# Altium schematic symbol library Connector_Audio.SchLib: 233 symbols (part 1 of 3)
Pins are listed as number, name and electrical type; pins without a type are passive.

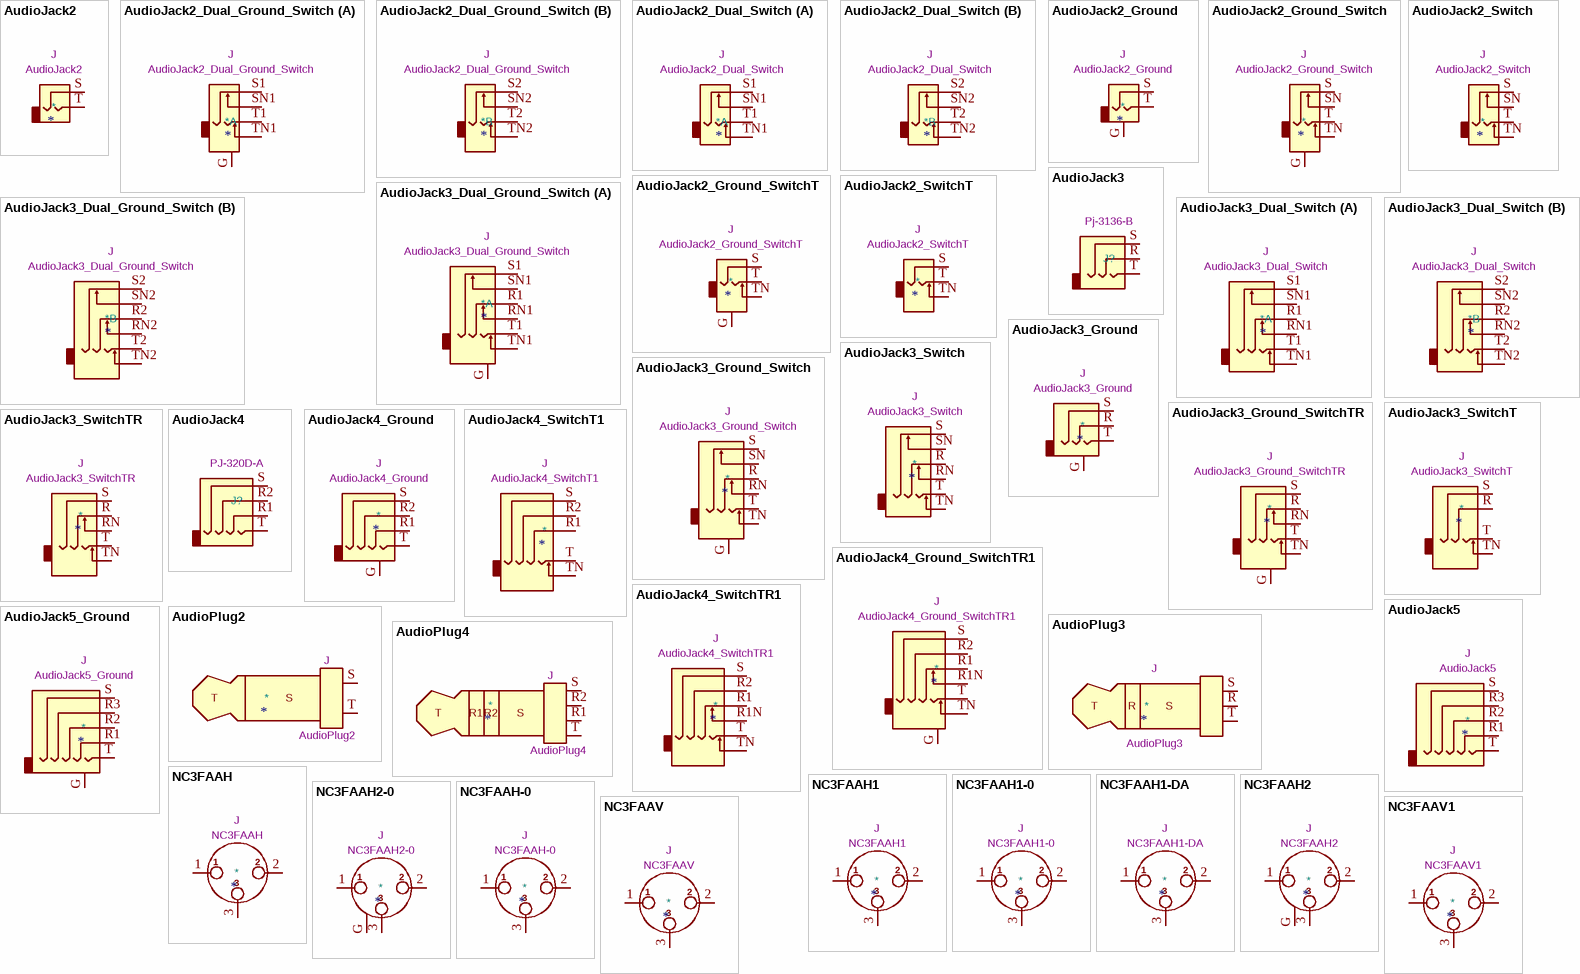
[diagram p0: symbols AudioJack2 to NC3FAAV1]

## AudioJack2
designator *  value AudioJack2  Reference: J
Audio Jack, 2 Poles (Mono / TS); ki_keywords: audio jack receptacle mono phone headphone TS connector; ki_fp_filters: Jack*; Datasheet: ~; Description_: Audio Jack, 2 Poles (Mono / TS)
pins: S, T

## AudioJack2_Dual_Ground_Switch
designator *  value AudioJack2_Dual_Ground_Switch  Reference: J
Audio Jack, Dual, 2 Poles (Mono / TS), Grounded Sleeve, Switched Pole (Normalling); ki_keywords: audio jack dual receptacle mono headphones phone TS connector; ki_fp_filters: Jack*; Datasheet: ~; Description_: Audio Jack, Dual, 2 Poles (Mono / TS), Grounded Sleeve, Switched Pole (Normalling)
part A pins: G, S1, SN1, T1, TN1
part B pins: S2, SN2, T2, TN2

## AudioJack2_Dual_Switch
designator *  value AudioJack2_Dual_Switch  Reference: J
Audio Jack, Dual, 2 Poles (Mono / TS), Switched Pole (Normalling); ki_keywords: audio jack dual receptacle mono headphones phone TS connector; ki_fp_filters: Jack*; Datasheet: ~; Description_: Audio Jack, Dual, 2 Poles (Mono / TS), Switched Pole (Normalling)
part A pins: S1, SN1, T1, TN1
part B pins: S2, SN2, T2, TN2

## AudioJack2_Ground
designator *  value AudioJack2_Ground  Reference: J
Audio Jack, 2 Poles (Mono / TS), Grounded Sleeve; ki_keywords: audio jack receptacle mono phone headphone TS connector; ki_fp_filters: Jack*; Datasheet: ~; Description_: Audio Jack, 2 Poles (Mono / TS), Grounded Sleeve
pins: G, S, T

## AudioJack2_Ground_Switch
designator *  value AudioJack2_Ground_Switch  Reference: J
Audio Jack, 2 Poles (Mono / TS), Grounded Sleeve, Switched Pole (Normalling); ki_keywords: audio jack receptacle mono headphones phone TS connector; ki_fp_filters: Jack*; Datasheet: ~; Description_: Audio Jack, 2 Poles (Mono / TS), Grounded Sleeve, Switched Pole (Normalling)
pins: G, S, SN, T, TN

## AudioJack2_Ground_SwitchT
designator *  value AudioJack2_Ground_SwitchT  Reference: J
Audio Jack, 2 Poles (Mono / TS), Grounded Sleeve, Switched T Pole (Normalling); ki_keywords: audio jack receptacle mono headphones phone TS connector; ki_fp_filters: Jack*; Datasheet: ~; Description_: Audio Jack, 2 Poles (Mono / TS), Grounded Sleeve, Switched T Pole (Normalling)
pins: G, S, T, TN

## AudioJack2_Switch
designator *  value AudioJack2_Switch  Reference: J
Audio Jack, 2 Poles (Mono / TS), Switched Pole (Normalling); ki_keywords: audio jack receptacle mono headphones phone TS connector; ki_fp_filters: Jack*; Datasheet: ~; Description_: Audio Jack, 2 Poles (Mono / TS), Switched Pole (Normalling)
pins: S, SN, T, TN

## AudioJack2_SwitchT
designator *  value AudioJack2_SwitchT  Reference: J
Audio Jack, 2 Poles (Mono / TS), Switched T Pole (Normalling); ki_keywords: audio jack receptacle mono headphones phone TS connector; ki_fp_filters: Jack*; Datasheet: ~; Description_: Audio Jack, 2 Poles (Mono / TS), Switched T Pole (Normalling)
pins: S, T, TN

## AudioJack3
designator J?  value Pj-3136-B  (hidden comment: *)
Audio Jack, 3 Poles (Stereo / TRS); ki_keywords: audio jack receptacle stereo headphones phones TRS connector; ki_fp_filters: Jack*; Reference: J; DNP: P; Datasheet: ~; Description_: Audio Jack, 3 Poles (Stereo / TRS)
footprint PJ-3136-B
pins: R, S, T

## AudioJack3_Dual_Ground_Switch
designator *  value AudioJack3_Dual_Ground_Switch  Reference: J
Audio Jack, Dual, 3 Poles (Stereo / TRS), Grounded Sleeve, Switched Poles (Normalling); ki_keywords: audio jack dual receptacle stereo headphones phones TRS connector; ki_fp_filters: Jack*; Datasheet: ~; Description_: Audio Jack, Dual, 3 Poles (Stereo / TRS), Grounded Sleeve, Switched Poles (Normalling)
part A pins: G, R1, RN1, S1, SN1, T1, TN1
part B pins: R2, RN2, S2, SN2, T2, TN2

## AudioJack3_Dual_Switch
designator *  value AudioJack3_Dual_Switch  Reference: J
Audio Jack, Dual, 3 Poles (Stereo / TRS), Switched Poles (Normalling); ki_keywords: audio jack dual receptacle stereo headphones phones TRS connector; ki_fp_filters: Jack*; Datasheet: ~; Description_: Audio Jack, Dual, 3 Poles (Stereo / TRS), Switched Poles (Normalling)
part A pins: R1, RN1, S1, SN1, T1, TN1
part B pins: R2, RN2, S2, SN2, T2, TN2

## AudioJack3_Ground
designator *  value AudioJack3_Ground  Reference: J
Audio Jack, 3 Poles (Stereo / TRS), Grounded Sleeve; ki_keywords: audio jack receptacle stereo headphones phones TRS connector; ki_fp_filters: Jack*; Datasheet: ~; Description_: Audio Jack, 3 Poles (Stereo / TRS), Grounded Sleeve
pins: G, R, S, T

## AudioJack3_Ground_Switch
designator *  value AudioJack3_Ground_Switch  Reference: J
Audio Jack, 3 Poles (Stereo / TRS), Grounded Sleeve, Switched Poles (Normalling); ki_keywords: audio jack receptacle stereo headphones phones TRS connector; ki_fp_filters: Jack*; Datasheet: ~; Description_: Audio Jack, 3 Poles (Stereo / TRS), Grounded Sleeve, Switched Poles (Normalling)
pins: G, R, RN, S, SN, T, TN

## AudioJack3_Ground_SwitchTR
designator *  value AudioJack3_Ground_SwitchTR  Reference: J
Audio Jack, 3 Poles (Stereo / TRS), Grounded Sleeve, Switched TR Poles (Normalling); ki_keywords: audio jack receptacle stereo headphones phones TRS connector; ki_fp_filters: Jack*; Datasheet: ~; Description_: Audio Jack, 3 Poles (Stereo / TRS), Grounded Sleeve, Switched TR Poles (Normalling)
pins: G, R, RN, S, T, TN

## AudioJack3_Switch
designator *  value AudioJack3_Switch  Reference: J
Audio Jack, 3 Poles (Stereo / TRS), Switched Poles (Normalling); ki_keywords: audio jack receptacle stereo headphones connector; ki_fp_filters: Jack*; Datasheet: ~; Description_: Audio Jack, 3 Poles (Stereo / TRS), Switched Poles (Normalling)
pins: R, RN, S, SN, T, TN

## AudioJack3_SwitchT
designator *  value AudioJack3_SwitchT  Reference: J
Audio Jack, 3 Poles (Stereo / TRS), Switched T Pole (Normalling); ki_keywords: audio jack receptacle stereo headphones phones TRS connector; ki_fp_filters: Jack*; Datasheet: ~; Description_: Audio Jack, 3 Poles (Stereo / TRS), Switched T Pole (Normalling)
pins: R, S, T, TN

## AudioJack3_SwitchTR
designator *  value AudioJack3_SwitchTR  Reference: J
Audio Jack, 3 Poles (Stereo / TRS), Switched TR Poles (Normalling); ki_keywords: audio jack receptacle stereo headphones phones TRS connector; ki_fp_filters: Jack*; Datasheet: ~; Description_: Audio Jack, 3 Poles (Stereo / TRS), Switched TR Poles (Normalling)
pins: R, RN, S, T, TN

## AudioJack4
designator J?  value PJ-320D-A  (hidden comment: *)
Audio Jack, 4 Poles (TRRS); ki_keywords: audio jack receptacle stereo headphones TRRS connector; ki_fp_filters: Jack*; Reference: J; DNP: P; ALTERNATE: CNX-QC2924; Datasheet: ~; Description_: Audio Jack, 4 Poles (TRRS)
footprint Jack_3.5mm_KoreanHropartsElec_PJ-320D-4A_Horizontal
pins: R1, R2, S, T

## AudioJack4_Ground
designator *  value AudioJack4_Ground  Reference: J
Audio Jack, 4 Poles (TRRS), Grounded Sleeve; ki_keywords: audio jack receptacle stereo headphones TRRS connector; ki_fp_filters: Jack*; Datasheet: ~; Description_: Audio Jack, 4 Poles (TRRS), Grounded Sleeve
pins: G, R1, R2, S, T

## AudioJack4_Ground_SwitchTR1
designator *  value AudioJack4_Ground_SwitchTR1  Reference: J
Audio Jack, 4 Poles (Stereo / TRRS), Grounded Sleeve, Switched TR1 Poles (Normalling); ki_keywords: audio jack receptacle stereo headphones phones TRS connector; ki_fp_filters: Jack*; Datasheet: ~; Description_: Audio Jack, 4 Poles (Stereo / TRRS), Grounded Sleeve, Switched TR1 Poles (Normalling)
pins: G, R1, R1N, R2, S, T, TN

## AudioJack4_SwitchT1
designator *  value AudioJack4_SwitchT1  Reference: J
Audio Jack, 4 Poles (Stereo / TRRS), Switched T1 Pole (Normalling); ki_keywords: audio jack receptacle stereo headphones phones connector; ki_fp_filters: Jack*; Datasheet: ~; Description_: Audio Jack, 4 Poles (Stereo / TRRS), Switched T1 Pole (Normalling)
pins: R1, R2, S, T, TN

## AudioJack4_SwitchTR1
designator *  value AudioJack4_SwitchTR1  Reference: J
Audio Jack, 4 Poles (Stereo / TRRS), Switched TR1 Poles (Normalling); ki_keywords: audio jack receptacle stereo headphones phones TRS connector; ki_fp_filters: Jack*; Datasheet: ~; Description_: Audio Jack, 4 Poles (Stereo / TRRS), Switched TR1 Poles (Normalling)
pins: R1, R1N, R2, S, T, TN

## AudioJack5
designator *  value AudioJack5  Reference: J
Audio Jack, 5 Poles (TRRRS); ki_keywords: audio jack receptacle stereo headphones TRRRS connector; ki_fp_filters: Jack*; Datasheet: ~; Description_: Audio Jack, 5 Poles (TRRRS)
pins: R1, R2, R3, S, T

## AudioJack5_Ground
designator *  value AudioJack5_Ground  Reference: J
Audio Jack, 5 Poles (TRRRS), Grounded Sleeve; ki_keywords: audio jack receptacle stereo headphones TRRRS connector; ki_fp_filters: Jack*; Datasheet: ~; Description_: Audio Jack, 5 Poles (TRRRS), Grounded Sleeve
pins: G, R1, R2, R3, S, T

## AudioPlug2
designator *  value AudioPlug2  Reference: J
Audio Jack, 2 Poles (Mono / TS); ki_keywords: audio jack plug stereo headphones TRRS connector 2.5mm 3.5mm 6.35mm; ki_fp_filters: Plug*; Datasheet: ~; Description_: Audio Jack, 2 Poles (Mono / TS)
pins: S, T

## AudioPlug3
designator *  value AudioPlug3  Reference: J
Audio Jack, 3 Poles (Stereo / TRS); ki_keywords: audio jack plug stereo headphones TRRS connector 2.5mm 3.5mm 6.35mm; ki_fp_filters: Plug*; Datasheet: ~; Description_: Audio Jack, 3 Poles (Stereo / TRS)
pins: R, S, T

## AudioPlug4
designator *  value AudioPlug4  Reference: J
Audio Jack, 4 Poles (Stereo / TRRS); ki_keywords: audio jack plug stereo headphones TRRS connector 2.5mm 3.5mm; ki_fp_filters: Plug*; Datasheet: ~; Description_: Audio Jack, 4 Poles (Stereo / TRRS)
pins: R1, R2, S, T

## NC3FAAH
designator *  value NC3FAAH  Reference: J
AA Series, 3 pole female XLR receptacle, grounding: without ground/shell contact, horizontal PCB mount; ki_keywords: xlr connector neutrik; ki_fp_filters: Jack*XLR*; Footprint: Connector_Audio:Jack_XLR_Neutrik_NC3FAAH_Horizontal; Datasheet: https://www.neutrik.com/en/product/nc3faah; Description_: AA Series, 3 pole female XLR receptacle, grounding: without ground/shell contact, horizontal PCB mount
pins: 1, 2, 3

## NC3FAAH1
designator *  value NC3FAAH1  Reference: J
AA Series, 3 pole female XLR receptacle, grounding: mating connector shell to pin1 and front panel, horizontal PCB mount; ki_keywords: xlr connector neutrik; ki_fp_filters: Jack*XLR*; Footprint: Connector_Audio:Jack_XLR_Neutrik_NC3FAAH1_Horizontal; Datasheet: https://www.neutrik.com/en/product/nc3faah1; Description_: AA Series, 3 pole female XLR receptacle, grounding: mating connector shell to pin1 and front panel, horizontal PCB mount
pins: 1, 2, 3

## NC3FAAH1-0
designator *  value NC3FAAH1-0  Reference: J
AA Series, 3 pole female XLR receptacle, grounding: mating connector shell to pin1 and front panel, horizontal PCB mount, retention spring instead of latch; ki_keywords: xlr connector neutrik; ki_fp_filters: Jack*XLR*; Footprint: Connector_Audio:Jack_XLR_Neutrik_NC3FAAH1-0_Horizontal; Datasheet: https://www.neutrik.com/en/product/nc3faah1-0; Description_: AA Series, 3 pole female XLR receptacle, grounding: mating connector shell to pin1 and front panel, horizontal PCB mount, retention spring instead of latch
pins: 1, 2, 3

## NC3FAAH1-DA
designator *  value NC3FAAH1-DA  Reference: J
AA Series, 3 pole female XLR receptacle, grounding: mating connector shell to pin1 and front panel, horizontal PCB mount, asymmetric push; ki_keywords: xlr connector neutrik; ki_fp_filters: Jack*XLR*; Footprint: Connector_Audio:Jack_XLR_Neutrik_NC3FAAH1-DA_Horizontal; Datasheet: https://www.neutrik.com/en/product/nc3faah1-da; Description_: AA Series, 3 pole female XLR receptacle, grounding: mating connector shell to pin1 and front panel, horizontal PCB mount, asymmetric push
pins: 1, 2, 3

## NC3FAAH2
designator *  value NC3FAAH2  Reference: J
AA Series, 3 pole female XLR receptacle, grounding: separate ground contact to mating connector shell and front panel, horizontal PCB mount; ki_keywords: xlr connector neutrik; ki_fp_filters: Jack*XLR*; Footprint: Connector_Audio:Jack_XLR_Neutrik_NC3FAAH2_Horizontal; Datasheet: https://www.neutrik.com/en/product/nc3faah2; Description_: AA Series, 3 pole female XLR receptacle, grounding: separate ground contact to mating connector shell and front panel, horizontal PCB mount
pins: 1, 2, 3, G

## NC3FAAH2-0
designator *  value NC3FAAH2-0  Reference: J
AA Series, 3 pole female XLR receptacle, grounding: separate ground contact to mating connector shell and front panel, horizontal PCB mount, retention spring instead of latch; ki_keywords: xlr connector neutrik; ki_fp_filters: Jack*XLR*; Footprint: Connector_Audio:Jack_XLR_Neutrik_NC3FAAH2-0_Horizontal; Datasheet: https://www.neutrik.com/en/product/nc3faah2-0; Description_: AA Series, 3 pole female XLR receptacle, grounding: separate ground contact to mating connector shell and front panel, horizontal PCB mount, retention spring instead of latch
pins: 1, 2, 3, G

## NC3FAAH-0
designator *  value NC3FAAH-0  Reference: J
AA Series, 3 pole female XLR receptacle, grounding: without ground/shell contact, horizontal PCB mount, retention spring instead of latch; ki_keywords: xlr connector neutrik; ki_fp_filters: Jack*XLR*; Footprint: Connector_Audio:Jack_XLR_Neutrik_NC3FAAH-0_Horizontal; Datasheet: https://www.neutrik.com/en/product/nc3faah-0; Description_: AA Series, 3 pole female XLR receptacle, grounding: without ground/shell contact, horizontal PCB mount, retention spring instead of latch
pins: 1, 2, 3

## NC3FAAV
designator *  value NC3FAAV  Reference: J
AA Series, 3 pole female receptacle, grounding: without ground/shell contact, vertical PCB mount; ki_keywords: xlr connector neutrik; ki_fp_filters: Jack*XLR*; Footprint: Connector_Audio:Jack_XLR_Neutrik_NC3FAAV_Vertical; Datasheet: https://www.neutrik.com/en/product/nc3faav; Description_: AA Series, 3 pole female receptacle, grounding: without ground/shell contact, vertical PCB mount
pins: 1, 2, 3

## NC3FAAV1
designator *  value NC3FAAV1  Reference: J
AA Series, 3 pole female receptacle, grounding: mating connector shell to pin1 and front panel, vertical PCB mount; ki_keywords: xlr connector neutrik; ki_fp_filters: Jack*XLR*; Footprint: Connector_Audio:Jack_XLR_Neutrik_NC3FAAV1_Vertical; Datasheet: https://www.neutrik.com/en/product/nc3faav1; Description_: AA Series, 3 pole female receptacle, grounding: mating connector shell to pin1 and front panel, vertical PCB mount
pins: 1, 2, 3

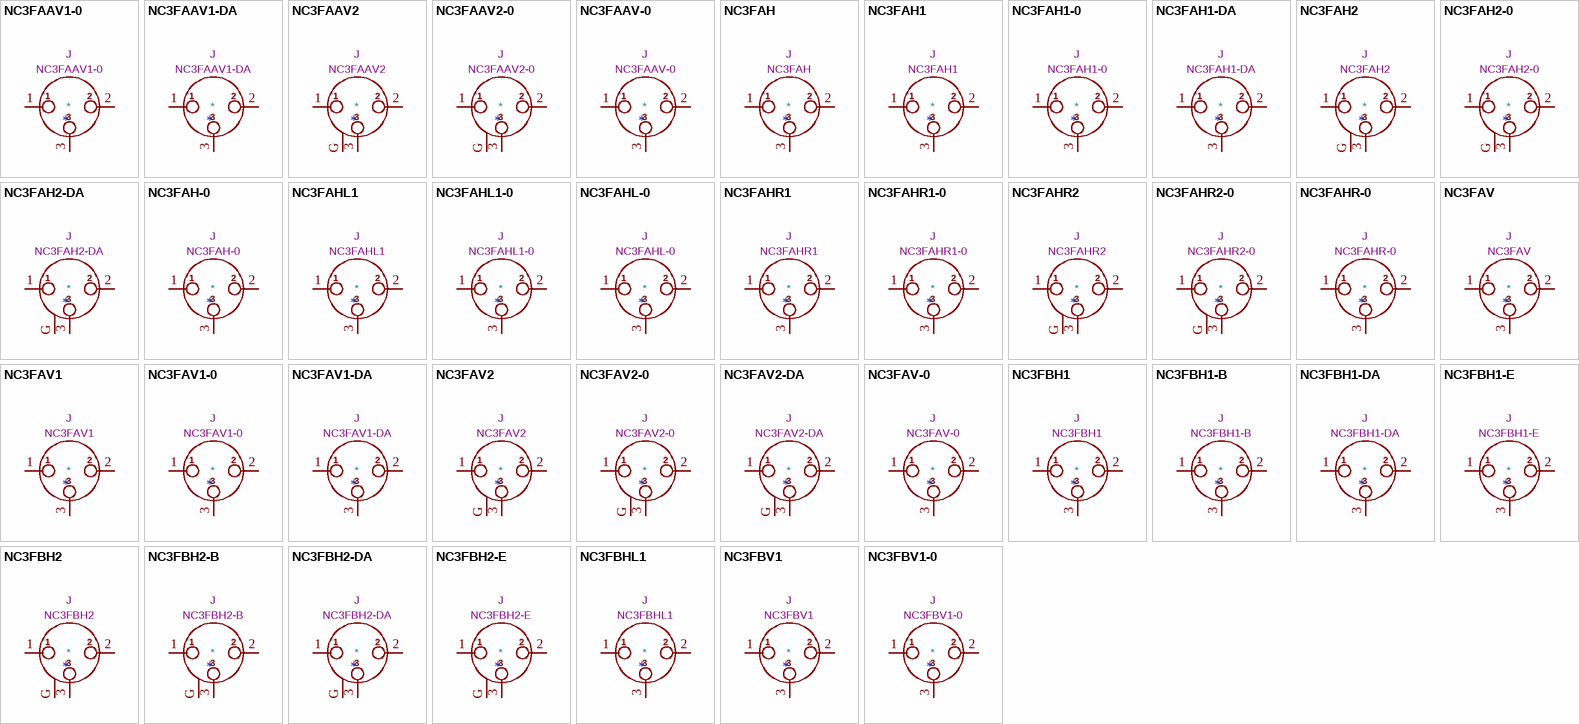
[diagram p1: symbols NC3FAAV1-0 to NC3FBV1-0]

## NC3FAAV1-0
designator *  value NC3FAAV1-0  Reference: J
AA Series, 3 pole female receptacle, grounding: mating connector shell to pin1 and front panel, vertical PCB mount, retention spring instead of latch; ki_keywords: xlr connector neutrik; ki_fp_filters: Jack*XLR*; Footprint: Connector_Audio:Jack_XLR_Neutrik_NC3FAAV1-0_Vertical; Datasheet: https://www.neutrik.com/en/product/nc3faav1-0; Description_: AA Series, 3 pole female receptacle, grounding: mating connector shell to pin1 and front panel, vertical PCB mount, retention spring instead of latch
pins: 1, 2, 3

## NC3FAAV1-DA
designator *  value NC3FAAV1-DA  Reference: J
AA Series, 3 pole female receptacle, grounding: mating connector shell to pin1 and front panel, vertical PCB mount, asymmetric push; ki_keywords: xlr connector neutrik; ki_fp_filters: Jack*XLR*; Footprint: Connector_Audio:Jack_XLR_Neutrik_NC3FAAV1-DA_Vertical; Datasheet: https://www.neutrik.com/en/product/nc3faav1-da; Description_: AA Series, 3 pole female receptacle, grounding: mating connector shell to pin1 and front panel, vertical PCB mount, asymmetric push
pins: 1, 2, 3

## NC3FAAV2
designator *  value NC3FAAV2  Reference: J
AA Series, 3 pole female receptacle, grounding: separate ground contact to mating connector shell and front panel, vertical PCB mount; ki_keywords: xlr connector neutrik; ki_fp_filters: Jack*XLR*; Footprint: Connector_Audio:Jack_XLR_Neutrik_NC3FAAV2_Vertical; Datasheet: https://www.neutrik.com/en/product/nc3faav2; Description_: AA Series, 3 pole female receptacle, grounding: separate ground contact to mating connector shell and front panel, vertical PCB mount
pins: 1, 2, 3, G

## NC3FAAV2-0
designator *  value NC3FAAV2-0  Reference: J
AA Series, 3 pole female receptacle, grounding: separate ground contact to mating connector shell and front panel, vertical PCB mount, retention spring instead of latch; ki_keywords: xlr connector neutrik; ki_fp_filters: Jack*XLR*; Footprint: Connector_Audio:Jack_XLR_Neutrik_NC3FAAV2-0_Vertical; Datasheet: https://www.neutrik.com/en/product/nc3faav2-0; Description_: AA Series, 3 pole female receptacle, grounding: separate ground contact to mating connector shell and front panel, vertical PCB mount, retention spring instead of latch
pins: 1, 2, 3, G

## NC3FAAV-0
designator *  value NC3FAAV-0  Reference: J
AA Series, 3 pole female receptacle, grounding: without ground/shell contact, vertical PCB mount, retention spring instead of latch; ki_keywords: xlr connector neutrik; ki_fp_filters: Jack*XLR*; Footprint: Connector_Audio:Jack_XLR_Neutrik_NC3FAAV-0_Vertical; Datasheet: https://www.neutrik.com/en/product/nc3faav-0; Description_: AA Series, 3 pole female receptacle, grounding: without ground/shell contact, vertical PCB mount, retention spring instead of latch
pins: 1, 2, 3

## NC3FAH
designator *  value NC3FAH  Reference: J
A Series, 3 pole female XLR receptacle, grounding: without ground/shell contact, horizontal PCB mount; ki_keywords: xlr connector neutrik; ki_fp_filters: Jack*XLR*; Footprint: Connector_Audio:Jack_XLR_Neutrik_NC3FAH_Horizontal; Datasheet: https://www.neutrik.com/en/product/nc3fah; Description_: A Series, 3 pole female XLR receptacle, grounding: without ground/shell contact, horizontal PCB mount
pins: 1, 2, 3

## NC3FAH1
designator *  value NC3FAH1  Reference: J
A Series, 3 pole female XLR receptacle, grounding: mating connector shell to pin1 and front panel, horizontal PCB mount; ki_keywords: xlr connector neutrik; ki_fp_filters: Jack*XLR*; Footprint: Connector_Audio:Jack_XLR_Neutrik_NC3FAH1_Horizontal; Datasheet: https://www.neutrik.com/en/product/nc3fah1; Description_: A Series, 3 pole female XLR receptacle, grounding: mating connector shell to pin1 and front panel, horizontal PCB mount
pins: 1, 2, 3

## NC3FAH1-0
designator *  value NC3FAH1-0  Reference: J
A Series, 3 pole female XLR receptacle, grounding: mating connector shell to pin1 and front panel, horizontal PCB mount, retention spring instead of latch; ki_keywords: xlr connector neutrik; ki_fp_filters: Jack*XLR*; Footprint: Connector_Audio:Jack_XLR_Neutrik_NC3FAH1-0_Horizontal; Datasheet: https://www.neutrik.com/en/product/nc3fah1-0; Description_: A Series, 3 pole female XLR receptacle, grounding: mating connector shell to pin1 and front panel, horizontal PCB mount, retention spring instead of latch
pins: 1, 2, 3

## NC3FAH1-DA
designator *  value NC3FAH1-DA  Reference: J
A Series, 3 pole female XLR receptacle, grounding: mating connector shell to pin1 and front panel, horizontal PCB mount, asymmetric push; ki_keywords: xlr connector neutrik; ki_fp_filters: Jack*XLR*; Footprint: Connector_Audio:Jack_XLR_Neutrik_NC3FAH1-DA_Horizontal; Datasheet: https://www.neutrik.com/en/product/nc3fah1-da; Description_: A Series, 3 pole female XLR receptacle, grounding: mating connector shell to pin1 and front panel, horizontal PCB mount, asymmetric push
pins: 1, 2, 3

## NC3FAH2
designator *  value NC3FAH2  Reference: J
A Series, 3 pole female XLR receptacle, grounding: separate ground contact to mating connector shell and front panel, horizontal PCB mount; ki_keywords: xlr connector neutrik; ki_fp_filters: Jack*XLR*; Footprint: Connector_Audio:Jack_XLR_Neutrik_NC3FAH2_Horizontal; Datasheet: https://www.neutrik.com/en/product/nc3fah2; Description_: A Series, 3 pole female XLR receptacle, grounding: separate ground contact to mating connector shell and front panel, horizontal PCB mount
pins: 1, 2, 3, G

## NC3FAH2-0
designator *  value NC3FAH2-0  Reference: J
A Series, 3 pole female XLR receptacle, grounding: separate ground contact to mating connector shell and front panel, horizontal PCB mount, retention spring instead of latch; ki_keywords: xlr connector neutrik; ki_fp_filters: Jack*XLR*; Footprint: Connector_Audio:Jack_XLR_Neutrik_NC3FAH2-0_Horizontal; Datasheet: https://www.neutrik.com/en/product/nc3fah2-0; Description_: A Series, 3 pole female XLR receptacle, grounding: separate ground contact to mating connector shell and front panel, horizontal PCB mount, retention spring instead of latch
pins: 1, 2, 3, G

## NC3FAH2-DA
designator *  value NC3FAH2-DA  Reference: J
A Series, 3 pole female XLR receptacle, grounding: separate ground contact to mating connector shell and front panel, horizontal PCB mount, asymmetric push; ki_keywords: xlr connector neutrik; ki_fp_filters: Jack*XLR*; Footprint: Connector_Audio:Jack_XLR_Neutrik_NC3FAH2-DA_Horizontal; Datasheet: https://www.neutrik.com/en/product/nc3fah2-da; Description_: A Series, 3 pole female XLR receptacle, grounding: separate ground contact to mating connector shell and front panel, horizontal PCB mount, asymmetric push
pins: 1, 2, 3, G

## NC3FAH-0
designator *  value NC3FAH-0  Reference: J
A Series, 3 pole female XLR receptacle, grounding: without ground/shell contact, horizontal PCB mount, retention spring instead of latch; ki_keywords: xlr connector neutrik; ki_fp_filters: Jack*XLR*; Footprint: Connector_Audio:Jack_XLR_Neutrik_NC3FAH-0_Horizontal; Datasheet: https://www.neutrik.com/en/product/nc3fah-0; Description_: A Series, 3 pole female XLR receptacle, grounding: without ground/shell contact, horizontal PCB mount, retention spring instead of latch
pins: 1, 2, 3

## NC3FAHL1
designator *  value NC3FAHL1  Reference: J
A Series, 3 pole female XLR receptacle, grounding: mating connector shell to pin1 and front panel, lateral left PCB mount; ki_keywords: xlr connector neutrik; ki_fp_filters: Jack*XLR*; Footprint: Connector_Audio:Jack_XLR_Neutrik_NC3FAHL1_Horizontal; Datasheet: https://www.neutrik.com/en/product/nc3fahl1; Description_: A Series, 3 pole female XLR receptacle, grounding: mating connector shell to pin1 and front panel, lateral left PCB mount
pins: 1, 2, 3

## NC3FAHL1-0
designator *  value NC3FAHL1-0  Reference: J
A Series, 3 pole female XLR receptacle, grounding: mating connector shell to pin1 and front panel, lateral left PCB mount, retention spring instead of latch; ki_keywords: xlr connector neutrik; ki_fp_filters: Jack*XLR*; Footprint: Connector_Audio:Jack_XLR_Neutrik_NC3FAHL1-0_Horizontal; Datasheet: https://www.neutrik.com/en/product/nc3fahl1-0; Description_: A Series, 3 pole female XLR receptacle, grounding: mating connector shell to pin1 and front panel, lateral left PCB mount, retention spring instead of latch
pins: 1, 2, 3

## NC3FAHL-0
designator *  value NC3FAHL-0  Reference: J
A Series, 3 pole female XLR receptacle, grounding: without ground/shell contact, lateral left PCB mount, retention spring instead of latch; ki_keywords: xlr connector neutrik; ki_fp_filters: Jack*XLR*; Footprint: Connector_Audio:Jack_XLR_Neutrik_NC3FAHL-0_Horizontal; Datasheet: https://www.neutrik.com/en/product/nc3fahl-0; Description_: A Series, 3 pole female XLR receptacle, grounding: without ground/shell contact, lateral left PCB mount, retention spring instead of latch
pins: 1, 2, 3

## NC3FAHR1
designator *  value NC3FAHR1  Reference: J
A Series, 3 pole female XLR receptacle, grounding: mating connector shell to pin1 and front panel, lateral right PCB mount; ki_keywords: xlr connector neutrik; ki_fp_filters: Jack*XLR*; Footprint: Connector_Audio:Jack_XLR_Neutrik_NC3FAHR1_Horizontal; Datasheet: https://www.neutrik.com/en/product/nc3fahr1; Description_: A Series, 3 pole female XLR receptacle, grounding: mating connector shell to pin1 and front panel, lateral right PCB mount
pins: 1, 2, 3

## NC3FAHR1-0
designator *  value NC3FAHR1-0  Reference: J
A Series, 3 pole female XLR receptacle, grounding: mating connector shell to pin1 and front panel, lateral right PCB mount, retention spring instead of latch; ki_keywords: xlr connector neutrik; ki_fp_filters: Jack*XLR*; Footprint: Connector_Audio:Jack_XLR_Neutrik_NC3FAHR1-0_Horizontal; Datasheet: https://www.neutrik.com/en/product/nc3fahr1-0; Description_: A Series, 3 pole female XLR receptacle, grounding: mating connector shell to pin1 and front panel, lateral right PCB mount, retention spring instead of latch
pins: 1, 2, 3

## NC3FAHR2
designator *  value NC3FAHR2  Reference: J
A Series, 3 pole female XLR receptacle, grounding: separate ground contact to mating connector shell and front panel, lateral right PCB mount; ki_keywords: xlr connector neutrik; ki_fp_filters: Jack*XLR*; Footprint: Connector_Audio:Jack_XLR_Neutrik_NC3FAHR2_Horizontal; Datasheet: https://www.neutrik.com/en/product/nc3fahr2; Description_: A Series, 3 pole female XLR receptacle, grounding: separate ground contact to mating connector shell and front panel, lateral right PCB mount
pins: 1, 2, 3, G

## NC3FAHR2-0
designator *  value NC3FAHR2-0  Reference: J
A Series, 3 pole female XLR receptacle, grounding: separate ground contact to mating connector shell and front panel, lateral right PCB mount, retention spring instead of latch; ki_keywords: xlr connector neutrik; ki_fp_filters: Jack*XLR*; Footprint: Connector_Audio:Jack_XLR_Neutrik_NC3FAHR2-0_Horizontal; Datasheet: https://www.neutrik.com/en/product/nc3fahr2-0; Description_: A Series, 3 pole female XLR receptacle, grounding: separate ground contact to mating connector shell and front panel, lateral right PCB mount, retention spring instead of latch
pins: 1, 2, 3, G

## NC3FAHR-0
designator *  value NC3FAHR-0  Reference: J
A Series, 3 pole female XLR receptacle, grounding: without ground / shell contact, lateral right PCB mount, retention spring instead of latch; ki_keywords: xlr connector neutrik; ki_fp_filters: Jack*XLR*; Footprint: Connector_Audio:Jack_XLR_Neutrik_NC3FAHR-0_Horizontal; Datasheet: https://www.neutrik.com/en/product/nc3fahr-0; Description_: A Series, 3 pole female XLR receptacle, grounding: without ground / shell contact, lateral right PCB mount, retention spring instead of latch
pins: 1, 2, 3

## NC3FAV
designator *  value NC3FAV  Reference: J
A Series, 3 pole female XLR receptacle, grounding: without ground / shell contact, vertical PCB mount; ki_keywords: xlr connector neutrik; ki_fp_filters: Jack*XLR*; Footprint: Connector_Audio:Jack_XLR_Neutrik_NC3FAV_Vertical; Datasheet: https://www.neutrik.com/en/product/nc3fav; Description_: A Series, 3 pole female XLR receptacle, grounding: without ground / shell contact, vertical PCB mount
pins: 1, 2, 3

## NC3FAV1
designator *  value NC3FAV1  Reference: J
A Series, 3 pole female XLR receptacle, grounding: mating connector shell to pin1 and front panel, vertical PCB mount; ki_keywords: xlr connector neutrik; ki_fp_filters: Jack*XLR*; Footprint: Connector_Audio:Jack_XLR_Neutrik_NC3FAV1_Vertical; Datasheet: https://www.neutrik.com/en/product/nc3fav1; Description_: A Series, 3 pole female XLR receptacle, grounding: mating connector shell to pin1 and front panel, vertical PCB mount
pins: 1, 2, 3

## NC3FAV1-0
designator *  value NC3FAV1-0  Reference: J
A Series, 3 pole female XLR receptacle, grounding: mating connector shell to pin1 and front panel, vertical PCB mount, retention spring instead of latch; ki_keywords: xlr connector neutrik; ki_fp_filters: Jack*XLR*; Footprint: Connector_Audio:Jack_XLR_Neutrik_NC3FAV1-0_Vertical; Datasheet: https://www.neutrik.com/en/product/nc3fav1-0; Description_: A Series, 3 pole female XLR receptacle, grounding: mating connector shell to pin1 and front panel, vertical PCB mount, retention spring instead of latch
pins: 1, 2, 3

## NC3FAV1-DA
designator *  value NC3FAV1-DA  Reference: J
A Series, 3 pole female XLR receptacle, grounding: mating connector shell to pin1 and front panel, vertical PCB mount, asymmetric push; ki_keywords: xlr connector neutrik; ki_fp_filters: Jack*XLR*; Footprint: Connector_Audio:Jack_XLR_Neutrik_NC3FAV1-DA_Vertical; Datasheet: https://www.neutrik.com/en/product/nc3fav1-da; Description_: A Series, 3 pole female XLR receptacle, grounding: mating connector shell to pin1 and front panel, vertical PCB mount, asymmetric push
pins: 1, 2, 3

## NC3FAV2
designator *  value NC3FAV2  Reference: J
A Series, 3 pole female XLR receptacle, grounding: separate ground contact to mating connector shell and front panel, vertical PCB mount; ki_keywords: xlr connector neutrik; ki_fp_filters: Jack*XLR*; Footprint: Connector_Audio:Jack_XLR_Neutrik_NC3FAV2_Vertical; Datasheet: https://www.neutrik.com/en/product/nc3fav2; Description_: A Series, 3 pole female XLR receptacle, grounding: separate ground contact to mating connector shell and front panel, vertical PCB mount
pins: 1, 2, 3, G

## NC3FAV2-0
designator *  value NC3FAV2-0  Reference: J
A Series, 3 pole female XLR receptacle, grounding: separate ground contact to mating connector shell and front panel, vertical PCB mount, retention spring instead of latch; ki_keywords: xlr connector neutrik; ki_fp_filters: Jack*XLR*; Footprint: Connector_Audio:Jack_XLR_Neutrik_NC3FAV2-0_Vertical; Datasheet: https://www.neutrik.com/en/product/nc3fav2-0; Description_: A Series, 3 pole female XLR receptacle, grounding: separate ground contact to mating connector shell and front panel, vertical PCB mount, retention spring instead of latch
pins: 1, 2, 3, G

## NC3FAV2-DA
designator *  value NC3FAV2-DA  Reference: J
A Series, 3 pole female XLR receptacle, grounding: separate ground contact to mating connector shell and front panel, vertical PCB mount, asymmetric push; ki_keywords: xlr connector neutrik; ki_fp_filters: Jack*XLR*; Footprint: Connector_Audio:Jack_XLR_Neutrik_NC3FAV2-DA_Vertical; Datasheet: https://www.neutrik.com/en/product/nc3fav2-da; Description_: A Series, 3 pole female XLR receptacle, grounding: separate ground contact to mating connector shell and front panel, vertical PCB mount, asymmetric push
pins: 1, 2, 3, G

## NC3FAV-0
designator *  value NC3FAV-0  Reference: J
A Series, 3 pole female XLR receptacle, grounding: without ground / shell contact, vertical PCB mount, retention spring instead of latch; ki_keywords: xlr connector neutrik; ki_fp_filters: Jack*XLR*; Footprint: Connector_Audio:Jack_XLR_Neutrik_NC3FAV-0_Vertical; Datasheet: https://www.neutrik.com/en/product/nc3fav-0; Description_: A Series, 3 pole female XLR receptacle, grounding: without ground / shell contact, vertical PCB mount, retention spring instead of latch
pins: 1, 2, 3

## NC3FBH1
designator *  value NC3FBH1  Reference: J
B Series, 3 pole female XLR receptacle, grounding: mating connector shell to pin1 and front panel, horizontal PCB mount; ki_keywords: xlr connector neutrik; ki_fp_filters: Jack*XLR*; Footprint: Connector_Audio:Jack_XLR_Neutrik_NC3FBH1_Horizontal; Datasheet: https://www.neutrik.com/en/product/nc3fbh1; Description_: B Series, 3 pole female XLR receptacle, grounding: mating connector shell to pin1 and front panel, horizontal PCB mount
pins: 1, 2, 3

## NC3FBH1-B
designator *  value NC3FBH1-B  Reference: J
B Series, 3 pole female XLR receptacle, grounding: mating connector shell to pin1 and front panel, horizontal PCB mount, black chrome shell; ki_keywords: xlr connector neutrik; ki_fp_filters: Jack*XLR*; Footprint: Connector_Audio:Jack_XLR_Neutrik_NC3FBH1-B_Horizontal; Datasheet: https://www.neutrik.com/en/product/nc3fbh1-b; Description_: B Series, 3 pole female XLR receptacle, grounding: mating connector shell to pin1 and front panel, horizontal PCB mount, black chrome shell
pins: 1, 2, 3

## NC3FBH1-DA
designator *  value NC3FBH1-DA  Reference: J
B Series, 3 pole female XLR receptacle, grounding: mating connector shell to pin1 and front panel, horizontal PCB mount, asymmetric push; ki_keywords: xlr connector neutrik; ki_fp_filters: Jack*XLR*; Footprint: Connector_Audio:Jack_XLR_Neutrik_NC3FBH1-DA_Horizontal; Datasheet: https://www.neutrik.com/en/product/nc3fbh1-da; Description_: B Series, 3 pole female XLR receptacle, grounding: mating connector shell to pin1 and front panel, horizontal PCB mount, asymmetric push
pins: 1, 2, 3

## NC3FBH1-E
designator *  value NC3FBH1-E  Reference: J
B Series, 3 pole female XLR receptacle, grounding: mating connector shell to pin1 and front panel, horizontal PCB mount, additional ground contacts; ki_keywords: xlr connector neutrik; ki_fp_filters: Jack*XLR*; Footprint: Connector_Audio:Jack_XLR_Neutrik_NC3FBH1-E_Horizontal; Datasheet: https://www.neutrik.com/en/product/nc3fbh1-e; Description_: B Series, 3 pole female XLR receptacle, grounding: mating connector shell to pin1 and front panel, horizontal PCB mount, additional ground contacts
pins: 1, 2, 3

## NC3FBH2
designator *  value NC3FBH2  Reference: J
B Series, 3 pole female XLR receptacle, grounding: separate ground contact to mating connector shell and front panel, horizontal PCB mount; ki_keywords: xlr connector neutrik; ki_fp_filters: Jack*XLR*; Footprint: Connector_Audio:Jack_XLR_Neutrik_NC3FBH2_Horizontal; Datasheet: https://www.neutrik.com/en/product/nc3fbh2; Description_: B Series, 3 pole female XLR receptacle, grounding: separate ground contact to mating connector shell and front panel, horizontal PCB mount
pins: 1, 2, 3, G

## NC3FBH2-B
designator *  value NC3FBH2-B  Reference: J
B Series, 3 pole female XLR receptacle, grounding: separate ground contact to mating connector shell and front panel, horizontal PCB mount, black chrome shell; ki_keywords: xlr connector neutrik; ki_fp_filters: Jack*XLR*; Footprint: Connector_Audio:Jack_XLR_Neutrik_NC3FBH2-B_Horizontal; Datasheet: https://www.neutrik.com/en/product/nc3fbh2-b; Description_: B Series, 3 pole female XLR receptacle, grounding: separate ground contact to mating connector shell and front panel, horizontal PCB mount, black chrome shell
pins: 1, 2, 3, G

## NC3FBH2-DA
designator *  value NC3FBH2-DA  Reference: J
B Series, 3 pole female XLR receptacle, grounding: separate ground contact to mating connector shell and front panel, horizontal PCB mount, asymmetric push; ki_keywords: xlr connector neutrik; ki_fp_filters: Jack*XLR*; Footprint: Connector_Audio:Jack_XLR_Neutrik_NC3FBH2-DA_Horizontal; Datasheet: https://www.neutrik.com/en/product/nc3fbh2-da; Description_: B Series, 3 pole female XLR receptacle, grounding: separate ground contact to mating connector shell and front panel, horizontal PCB mount, asymmetric push
pins: 1, 2, 3, G

## NC3FBH2-E
designator *  value NC3FBH2-E  Reference: J
B Series, 3 pole female XLR receptacle, grounding: separate ground contact to mating connector shell and front panel, horizontal PCB mount, additional ground contacts; ki_keywords: xlr connector neutrik; ki_fp_filters: Jack*XLR*; Footprint: Connector_Audio:Jack_XLR_Neutrik_NC3FBH2-E_Horizontal; Datasheet: https://www.neutrik.com/en/product/nc3fbh2-e; Description_: B Series, 3 pole female XLR receptacle, grounding: separate ground contact to mating connector shell and front panel, horizontal PCB mount, additional ground contacts
pins: 1, 2, 3, G

## NC3FBHL1
designator *  value NC3FBHL1  Reference: J
B Series, 3 pole female XLR receptacle, grounding: mating connector shell to pin1 and front panel, lateral left PCB mount; ki_keywords: xlr connector neutrik; ki_fp_filters: Jack*XLR*; Footprint: Connector_Audio:Jack_XLR_Neutrik_NC3FBHL1_Horizontal; Datasheet: https://www.neutrik.com/en/product/nc3fbhl1; Description_: B Series, 3 pole female XLR receptacle, grounding: mating connector shell to pin1 and front panel, lateral left PCB mount
pins: 1, 2, 3

## NC3FBV1
designator *  value NC3FBV1  Reference: J
B Series, 3 pole female XLR receptacle, grounding: mating connector shell to pin1 and front panel, vertical PCB mount; ki_keywords: xlr connector neutrik; ki_fp_filters: Jack*XLR*; Footprint: Connector_Audio:Jack_XLR_Neutrik_NC3FBV1_Vertical; Datasheet: https://www.neutrik.com/en/product/nc3fbv1; Description_: B Series, 3 pole female XLR receptacle, grounding: mating connector shell to pin1 and front panel, vertical PCB mount
pins: 1, 2, 3

## NC3FBV1-0
designator *  value NC3FBV1-0  Reference: J
B Series, 3 pole female XLR receptacle, grounding: mating connector shell to pin1 and front panel, vertical PCB mount, retention spring, no latch; ki_keywords: xlr connector neutrik; ki_fp_filters: Jack*XLR*; Footprint: Connector_Audio:Jack_XLR_Neutrik_NC3FBV1-0_Vertical; Datasheet: https://www.neutrik.com/en/product/nc3fbv1-0; Description_: B Series, 3 pole female XLR receptacle, grounding: mating connector shell to pin1 and front panel, vertical PCB mount, retention spring, no latch
pins: 1, 2, 3

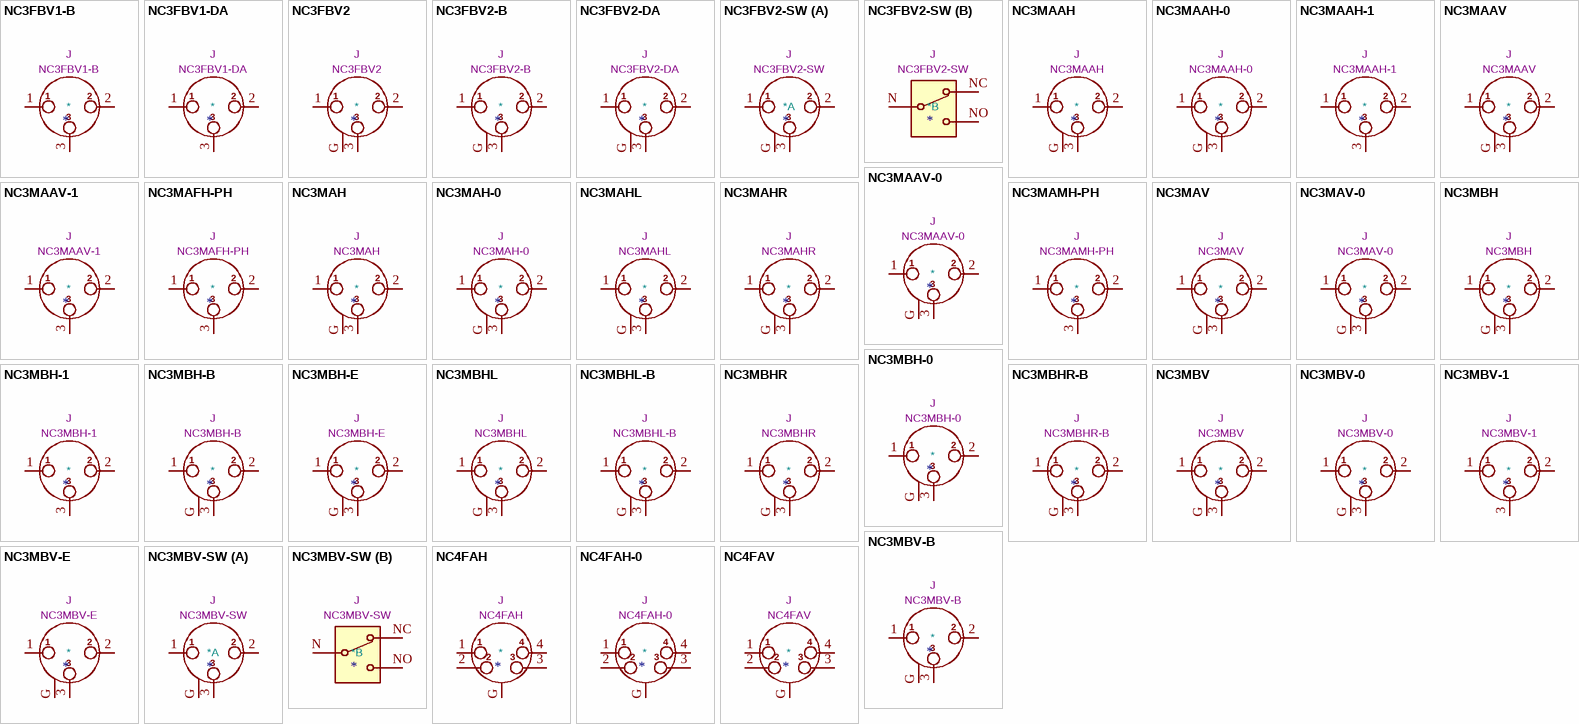
[diagram p2: symbols NC3FBV1-B to NC4FAV]

## NC3FBV1-B
designator *  value NC3FBV1-B  Reference: J
B Series, 3 pole female XLR receptacle, grounding: mating connector shell to pin1 and front panel, vertical PCB mount, black chrome shell; ki_keywords: xlr connector neutrik; ki_fp_filters: Jack*XLR*; Footprint: Connector_Audio:Jack_XLR_Neutrik_NC3FBV1-B_Vertical; Datasheet: https://www.neutrik.com/en/product/nc3fbv1-b; Description_: B Series, 3 pole female XLR receptacle, grounding: mating connector shell to pin1 and front panel, vertical PCB mount, black chrome shell
pins: 1, 2, 3

## NC3FBV1-DA
designator *  value NC3FBV1-DA  Reference: J
B Series, 3 pole female XLR receptacle, grounding: mating connector shell to pin1 and front panel, vertical PCB mount, asymmetric push; ki_keywords: xlr connector neutrik; ki_fp_filters: Jack*XLR*; Footprint: Connector_Audio:Jack_XLR_Neutrik_NC3FBV1-DA_Vertical; Datasheet: https://www.neutrik.com/en/product/nc3fbv1-da; Description_: B Series, 3 pole female XLR receptacle, grounding: mating connector shell to pin1 and front panel, vertical PCB mount, asymmetric push
pins: 1, 2, 3

## NC3FBV2
designator *  value NC3FBV2  Reference: J
B Series, 3 pole female XLR receptacle, grounding: separate ground contact to mating connector shell and front panel, vertical PCB mount; ki_keywords: xlr connector neutrik; ki_fp_filters: Jack*XLR*; Footprint: Connector_Audio:Jack_XLR_Neutrik_NC3FBV2_Vertical; Datasheet: https://www.neutrik.com/en/product/nc3fbv2; Description_: B Series, 3 pole female XLR receptacle, grounding: separate ground contact to mating connector shell and front panel, vertical PCB mount
pins: 1, 2, 3, G

## NC3FBV2-B
designator *  value NC3FBV2-B  Reference: J
B Series, 3 pole female XLR receptacle, grounding: separate ground contact to mating connector shell and front panel, vertical PCB mount, black chrome shell; ki_keywords: xlr connector neutrik; ki_fp_filters: Jack*XLR*; Footprint: Connector_Audio:Jack_XLR_Neutrik_NC3FBV2-B_Vertical; Datasheet: https://www.neutrik.com/en/product/nc3fbv2-b; Description_: B Series, 3 pole female XLR receptacle, grounding: separate ground contact to mating connector shell and front panel, vertical PCB mount, black chrome shell
pins: 1, 2, 3, G

## NC3FBV2-DA
designator *  value NC3FBV2-DA  Reference: J
B Series, 3 pole female XLR receptacle, grounding: separate ground contact to mating connector shell and front panel, vertical PCB mount, asymmetric push; ki_keywords: xlr connector neutrik; ki_fp_filters: Jack*XLR*; Footprint: Connector_Audio:Jack_XLR_Neutrik_NC3FBV2-DA_Vertical; Datasheet: https://www.neutrik.com/en/product/nc3fbv2-da; Description_: B Series, 3 pole female XLR receptacle, grounding: separate ground contact to mating connector shell and front panel, vertical PCB mount, asymmetric push
pins: 1, 2, 3, G

## NC3FBV2-SW
designator *  value NC3FBV2-SW  Reference: J
B Series, 3 pole female XLR receptacle, switching contacts, grounding: separate ground contact to mating connector shell and front panel, vertical PCB mount; ki_keywords: xlr connector spdt switch neutrik; ki_fp_filters: Jack*XLR*; Footprint: Connector_Audio:Jack_XLR_Neutrik_NC3FBV2-SW_Vertical; Datasheet: https://www.neutrik.com/en/product/nc3fbv2-sw; Description_: B Series, 3 pole female XLR receptacle, switching contacts, grounding: separate ground contact to mating connector shell and front panel, vertical PCB mount
part A pins: 1, 2, 3, G
part B pins: N, NC, NO

## NC3MAAH
designator *  value NC3MAAH  Reference: J
AA Series, 3 pole male XLR receptacle, grounding: separate ground contact to mating connector shell and front panel, horizontal PCB mount; ki_keywords: xlr connector neutrik; ki_fp_filters: Jack*XLR*; Footprint: Connector_Audio:Jack_XLR_Neutrik_NC3MAAH_Horizontal; Datasheet: https://www.neutrik.com/en/product/nc3maah; Description_: AA Series, 3 pole male XLR receptacle, grounding: separate ground contact to mating connector shell and front panel, horizontal PCB mount
pins: 1, 2, 3, G

## NC3MAAH-0
designator *  value NC3MAAH-0  Reference: J
AA Series, 3 pole male XLR receptacle, grounding: ground contact connected to shell ground, but not to front panel and Pin 1, horizontal PCB mount; ki_keywords: xlr connector neutrik; ki_fp_filters: Jack*XLR*; Footprint: Connector_Audio:Jack_XLR_Neutrik_NC3MAAH-0_Horizontal; Datasheet: https://www.neutrik.com/en/product/nc3maah-0; Description_: AA Series, 3 pole male XLR receptacle, grounding: ground contact connected to shell ground, but not to front panel and Pin 1, horizontal PCB mount
pins: 1, 2, 3, G

## NC3MAAH-1
designator *  value NC3MAAH-1  Reference: J
AA Series, 3 pole male XLR receptacle, grounding: mating connector shell to pin1 and front panel, horizontal PCB mount; ki_keywords: xlr connector neutrik; ki_fp_filters: Jack*XLR*; Footprint: Connector_Audio:Jack_XLR_Neutrik_NC3MAAH-1_Horizontal; Datasheet: https://www.neutrik.com/en/product/nc3maah-1; Description_: AA Series, 3 pole male XLR receptacle, grounding: mating connector shell to pin1 and front panel, horizontal PCB mount
pins: 1, 2, 3

## NC3MAAV
designator *  value NC3MAAV  Reference: J
AA Series, 3 pole male XLR receptacle, grounding: separate ground contact to mating connector shell and front panel, vertical PCB mount; ki_keywords: xlr connector neutrik; ki_fp_filters: Jack*XLR*; Footprint: Connector_Audio:Jack_XLR_Neutrik_NC3MAAV_Vertical; Datasheet: https://www.neutrik.com/en/product/nc3maav; Description_: AA Series, 3 pole male XLR receptacle, grounding: separate ground contact to mating connector shell and front panel, vertical PCB mount
pins: 1, 2, 3, G

## NC3MAAV-0
designator *  value NC3MAAV-0  Reference: J
AA Series, 3 pole male XLR receptacle, grounding: ground contact connected to shell ground, but not to front panel and Pin 1, vertical PCB mount; ki_keywords: xlr connector neutrik; ki_fp_filters: Jack*XLR*; Footprint: Connector_Audio:Jack_XLR_Neutrik_NC3MAAV-0_Vertical; Datasheet: https://www.neutrik.com/en/product/nc3maav-0; Description_: AA Series, 3 pole male XLR receptacle, grounding: ground contact connected to shell ground, but not to front panel and Pin 1, vertical PCB mount
pins: 1, 2, 3, G

## NC3MAAV-1
designator *  value NC3MAAV-1  Reference: J
AA Series, 3 pole male XLR receptacle, grounding: mating connector shell to pin1 and front panel, vertical PCB mount; ki_keywords: xlr connector neutrik; ki_fp_filters: Jack*XLR*; Footprint: Connector_Audio:Jack_XLR_Neutrik_NC3MAAV-1_Vertical; Datasheet: https://www.neutrik.com/en/product/nc3maav-1; Description_: AA Series, 3 pole male XLR receptacle, grounding: mating connector shell to pin1 and front panel, vertical PCB mount
pins: 1, 2, 3

## NC3MAFH-PH
designator *  value NC3MAFH-PH  Reference: J
A Series, Chassis connector H female (A series layout), mates with Phoenix MSTB2,5/3-ST, horizontal PCB mount; ki_keywords: xlr connector neutrik; ki_fp_filters: Jack*XLR*; Footprint: Connector_Audio:Jack_XLR_Neutrik_NC3MAFH-PH_Horizontal; Datasheet: https://www.neutrik.com/en/product/nc3mafh-ph; Description_: A Series, Chassis connector H female (A series layout), mates with Phoenix MSTB2,5/3-ST, horizontal PCB mount
pins: 1, 2, 3

## NC3MAH
designator *  value NC3MAH  Reference: J
A Series, 3 pole male XLR receptacle, grounding: separate ground contact to mating connector shell and front panel, horizontal PCB mount; ki_keywords: xlr connector neutrik; ki_fp_filters: Jack*XLR*; Footprint: Connector_Audio:Jack_XLR_Neutrik_NC3MAH_Horizontal; Datasheet: https://www.neutrik.com/en/product/nc3mah; Description_: A Series, 3 pole male XLR receptacle, grounding: separate ground contact to mating connector shell and front panel, horizontal PCB mount
pins: 1, 2, 3, G

## NC3MAH-0
designator *  value NC3MAH-0  Reference: J
A Series, 3 pole male XLR receptacle, grounding: ground contact connected to shell ground, but not to front panel and Pin 1, horizontal PCB mount; ki_keywords: xlr connector neutrik; ki_fp_filters: Jack*XLR*; Footprint: Connector_Audio:Jack_XLR_Neutrik_NC3MAH-0_Horizontal; Datasheet: https://www.neutrik.com/en/product/nc3mah-0; Description_: A Series, 3 pole male XLR receptacle, grounding: ground contact connected to shell ground, but not to front panel and Pin 1, horizontal PCB mount
pins: 1, 2, 3, G

## NC3MAHL
designator *  value NC3MAHL  Reference: J
A Series, 3 pole male XLR receptacle, grounding: separate ground contact to mating connector shell and front panel, lateral left PCB mount; ki_keywords: xlr connector neutrik; ki_fp_filters: Jack*XLR*; Footprint: Connector_Audio:Jack_XLR_Neutrik_NC3MAHL_Horizontal; Datasheet: https://www.neutrik.com/en/product/nc3mahl; Description_: A Series, 3 pole male XLR receptacle, grounding: separate ground contact to mating connector shell and front panel, lateral left PCB mount
pins: 1, 2, 3, G

## NC3MAHR
designator *  value NC3MAHR  Reference: J
A Series, 3 pole male XLR receptacle, grounding: separate ground contact to mating connector shell and front panel, lateral right PCB mount; ki_keywords: xlr connector neutrik; ki_fp_filters: Jack*XLR*; Footprint: Connector_Audio:Jack_XLR_Neutrik_NC3MAHR_Horizontal; Datasheet: https://www.neutrik.com/en/product/nc3mahr; Description_: A Series, 3 pole male XLR receptacle, grounding: separate ground contact to mating connector shell and front panel, lateral right PCB mount
pins: 1, 2, 3, G

## NC3MAMH-PH
designator *  value NC3MAMH-PH  Reference: J
A Series, Chassis connector Phoenix H male (A series layout), mates with Phoenix MSTB 2,5/3-ST, horizontal PCB mount; ki_keywords: xlr connector neutrik; ki_fp_filters: Jack*XLR*; Footprint: Connector_Audio:Jack_XLR_Neutrik_NC3MAMH-PH_Horizontal; Datasheet: https://www.neutrik.com/en/product/nc3mamh-ph; Description_: A Series, Chassis connector Phoenix H male (A series layout), mates with Phoenix MSTB 2,5/3-ST, horizontal PCB mount
pins: 1, 2, 3

## NC3MAV
designator *  value NC3MAV  Reference: J
A Series, 3 pole male XLR receptacle, grounding: separate ground contact to mating connector shell and front panel, vertical PCB mount; ki_keywords: xlr connector neutrik; ki_fp_filters: Jack*XLR*; Footprint: Connector_Audio:Jack_XLR_Neutrik_NC3MAV_Vertical; Datasheet: https://www.neutrik.com/en/product/nc3mav; Description_: A Series, 3 pole male XLR receptacle, grounding: separate ground contact to mating connector shell and front panel, vertical PCB mount
pins: 1, 2, 3, G

## NC3MAV-0
designator *  value NC3MAV-0  Reference: J
A Series, 3 pole male XLR receptacle, grounding: ground contact connected to shell ground, but not to front panel and Pin 1, vertical PCB mount; ki_keywords: xlr connector neutrik; ki_fp_filters: Jack*XLR*; Footprint: Connector_Audio:Jack_XLR_Neutrik_NC3MAV-0_Vertical; Datasheet: https://www.neutrik.com/en/product/nc3mav-0; Description_: A Series, 3 pole male XLR receptacle, grounding: ground contact connected to shell ground, but not to front panel and Pin 1, vertical PCB mount
pins: 1, 2, 3, G

## NC3MBH
designator *  value NC3MBH  Reference: J
B Series, 3 pole male XLR receptacle, grounding: separate ground contact to mating connector shell and front panel, steel retention lug, horizontal PCB mount; ki_keywords: xlr connector neutrik; ki_fp_filters: Jack*XLR*; Footprint: Connector_Audio:Jack_XLR_Neutrik_NC3MBH_Horizontal; Datasheet: https://www.neutrik.com/en/product/nc3mbh; Description_: B Series, 3 pole male XLR receptacle, grounding: separate ground contact to mating connector shell and front panel, steel retention lug, horizontal PCB mount
pins: 1, 2, 3, G

## NC3MBH-0
designator *  value NC3MBH-0  Reference: J
B Series, 3 pole male XLR receptacle, grounding: ground contact connected to shell ground, but not to front panel and Pin 1, steel retention lug, horizontal PCB mount; ki_keywords: xlr connector neutrik; ki_fp_filters: Jack*XLR*; Footprint: Connector_Audio:Jack_XLR_Neutrik_NC3MBH-0_Horizontal; Datasheet: https://www.neutrik.com/en/product/nc3mbh-0; Description_: B Series, 3 pole male XLR receptacle, grounding: ground contact connected to shell ground, but not to front panel and Pin 1, steel retention lug, horizontal PCB mount
pins: 1, 2, 3, G

## NC3MBH-1
designator *  value NC3MBH-1  Reference: J
B Series, 3 pole male XLR receptacle, grounding: mating connector shell to pin1 and front panel, steel retention lug, horizontal PCB mount; ki_keywords: xlr connector neutrik; ki_fp_filters: Jack*XLR*; Footprint: Connector_Audio:Jack_XLR_Neutrik_NC3MBH-1_Horizontal; Datasheet: https://www.neutrik.com/en/product/nc3mbh-1; Description_: B Series, 3 pole male XLR receptacle, grounding: mating connector shell to pin1 and front panel, steel retention lug, horizontal PCB mount
pins: 1, 2, 3